# Altium footprint library SOT-223-4.PcbLib: 1 footprints
Each footprint in its own frame and in the unit in brackets; x right, y up, seen from the top. Pads: shape width x height; smd on the part's side, far side on the other; paste and mask are expansions set on the pad; w line width, h text height; cw(c..) or ccw(c..) is an arc to the next point about the centre after c.
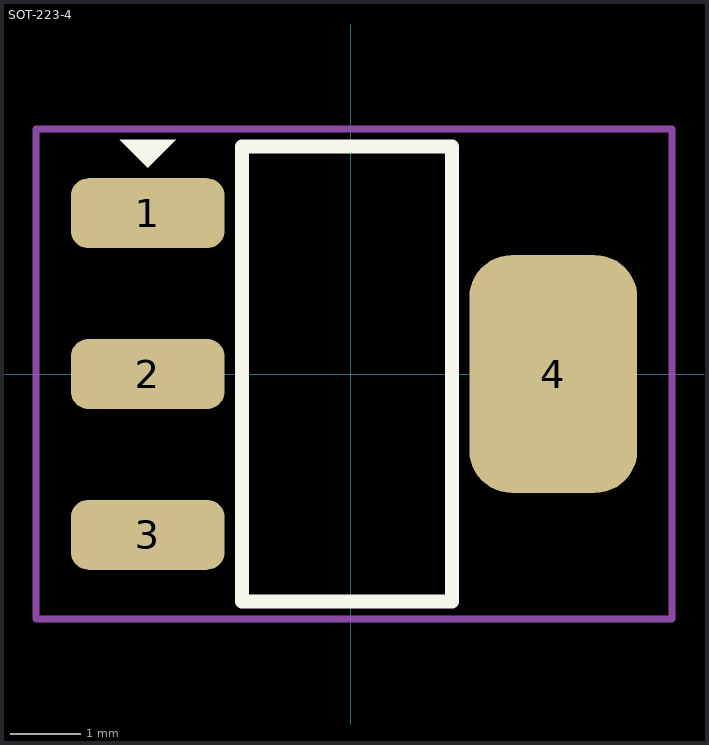
[diagram p0: the footprint, top view; thin cyan lines are the x and y axes]

## SOT-223-4 [mm]
pads (4):
  rrect50% 2.2x1 smd: 1(-2.9,2.3) 2(-2.9,0) 3(-2.9,-2.3)
  rrect50% 2.4x3.4 smd: 4(2.9,0)
Top Overlay:
  region: -3.3,3.35 -2.5,3.35 -2.9,2.95
  lines w0.2: -1.55,-3.25 1.45,-3.25 1.45,3.25 -1.55,3.25 -1.55,-3.25
Top Courtyard:
  lines w0.1: -4.5,-3.5 -4.5,3.5 4.6,3.5 4.6,-3.5 -1.55,-3.5 -4.5,-3.5
3D body "AMS1117-5.0--3DModel-STEP-86487.STEP": height 1.8, standoff 0, extent -3.499,-3.251 3.499,3.251